# EAGLE library part FINDER_RELAY (library Relay)
FINDER_Relay_ TYP40.52, 12V, 2 Umschalter
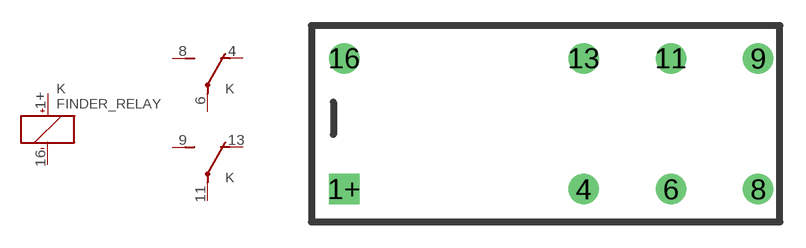
[diagram p3: symbol with the pads of FINDER; footprint FINDER]

Designator prefix K; gates G$1=FINDER_SPULE G$2=FINDER_SCHALTER G$3=FINDER_SCHALTER

## FINDER_RELAY  [FINDER]
1+  G$1:+  pas
4  G$2:O  pas
6  G$2:P  pas
8  G$2:S  pas
9  G$3:S  pas
11  G$3:P  pas
13  G$3:O  pas
16  G$1:-  pas

## Footprint FINDER (pad centres in mm)
drill 0.8 pad 1.778 square: 1+ -13.97,-3.81
drill 0.8 pad 1.778: 4 0,-3.81; 6 5.08,-3.81; 8 10.16,-3.81; 9 10.16,3.81; 11 5.08,3.81; 13 0,3.81; 16 -13.97,3.81